# Altium integrated library NSC Voltage Reference.IntLib: 298 symbols (part 1 of 7)
Pins are listed as number, name and electrical type; pins without a type are passive.

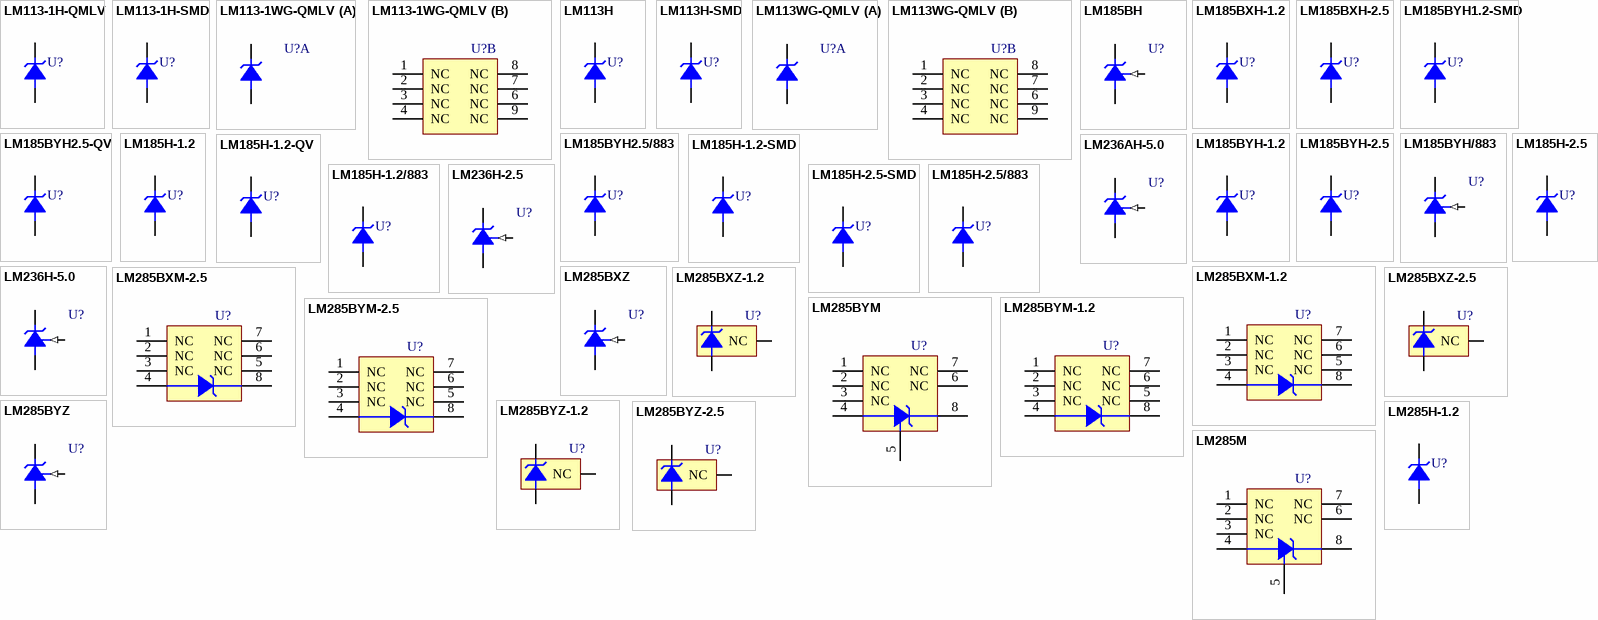
[diagram p0: symbols LM113-1H-QMLV to LM285M]

## LM113-1H-QMLV
designator U?
Precision Reference; PartNumber: LM113-1H-QMLV; Manufacturer: National Semiconductor; CompType: Voltage Reference IC; PackageTopMarking: NSZSSXXYYA 9684302VXA Q; PowerWise: N; Published: 4-Dec-2008; DatasheetVersion: Dec-1994; PackageVersion: revF, Apr-2002; PackageReference: H02A; Publisher: Altium Limited; PackageDescription: Metal Can, TO-46, 2 Lead, .100in Dia, P.C.; RoHS: N; PinCount: 2; Code_JEDEC: TO-46; ComponentLink1Description: LM113 Datasheet; ComponentLink1URL: http://www.national.com/ds/LM/LM113.pdf; ComponentLink2Description: LM113 Web Page; ComponentLink2URL: http://www.national.com/pf/LM/LM113.html; ComponentLink3Description: H02A Package Page; ComponentLink3URL: http://www.national.com/packaging/folders/h02a.html
footprint H02A (Can; 2 Leads; Pin Circle Dia. 2.54 mm; Lead Dia. 0.48 mm (max))
pins: 1 V+ (power), 2 V- (power)

## LM113-1H-SMD
designator U?
Precision Reference; PartNumber: LM113-1H-SMD; Manufacturer: National Semiconductor; CompType: Voltage Reference IC; PackageTopMarking: NSZSSXXYYA 8671102XA Q; PowerWise: N; Published: 4-Dec-2008; DatasheetVersion: Dec-1994; PackageVersion: revF, Apr-2002; PackageReference: H02A; Publisher: Altium Limited; PackageDescription: Metal Can, TO-46, 2 Lead, .100in Dia, P.C.; RoHS: N; PinCount: 2; Code_JEDEC: TO-46; ComponentLink1Description: LM113 Datasheet; ComponentLink1URL: http://www.national.com/ds/LM/LM113.pdf; ComponentLink2Description: LM113 Web Page; ComponentLink2URL: http://www.national.com/pf/LM/LM113.html; ComponentLink3Description: H02A Package Page; ComponentLink3URL: http://www.national.com/packaging/folders/h02a.html
footprint H02A (Can; 2 Leads; Pin Circle Dia. 2.54 mm; Lead Dia. 0.48 mm (max))
pins: 1 V+ (power), 2 V- (power)

## LM113-1WG-QMLV
designator U?
Precision Reference; PartNumber: LM113-1WG-QMLV; Manufacturer: National Semiconductor; CompType: Voltage Reference IC; PackageTopMarking: NS*ZSSXXYYA*9684302*VZA Q; PowerWise: N; MilaeroCode: DXX; Published: 29-May-2009; DatasheetVersion: Dec-1994; PackageVersion: revF, Oct-2008; PackageReference: WG10A; Publisher: Altium Limited; PackageDescription: Cerpack, .270 x .241 x .070in, 10 Lead, .050in Pitch, Gull Wing; RoHS: N; PinCount: 10; ComponentLink1Description: LM113 Datasheet; ComponentLink1URL: http://www.national.com/ds/LM/LM113.pdf; ComponentLink2Description: LM113 Web Page; ComponentLink2URL: http://www.national.com/pf/LM/LM113.html; ComponentLink3Description: WG10A Package Page; ComponentLink3URL: http://www.national.com/packaging/folders/wg10a.html
footprint WG10A_N (CERPACK, 10-Leads, Body 6.9x6.3mm, Pitch 1.27mm, IPC Medium Density)
footprint WG10A_L (CERPACK, 10-Leads, Body 6.9x6.3mm, Pitch 1.27mm, IPC High Density)
footprint WG10A_M (CERPACK, 10-Leads, Body 6.9x6.3mm, Pitch 1.27mm, IPC Low Density)
part A pins: 5 -V, 10 +V
part B pins: 1 NC, 2 NC, 3 NC, 4 NC, 6 NC, 7 NC, 8 NC, 9 NC

## LM113H
designator U?
Precision Reference; PartNumber: LM113H; Manufacturer: National Semiconductor; CompType: Voltage Reference IC; PackageTopMarking: NSXYTTE# LM113H; PowerWise: N; Published: 4-Dec-2008; DatasheetVersion: Dec-1994; PackageVersion: revF, Apr-2002; PackageReference: H02A; Publisher: Altium Limited; PackageDescription: Metal Can, TO-46, 2 Lead, .100in Dia, P.C.; RoHS: O; PinCount: 2; DigiKeyPartNumber: LM113H-ND; Code_JEDEC: TO-46; ComponentLink1Description: LM113 Datasheet; ComponentLink1URL: http://www.national.com/ds/LM/LM113.pdf; ComponentLink2Description: LM113 Web Page; ComponentLink2URL: http://www.national.com/pf/LM/LM113.html; ComponentLink3Description: H02A Package Page; ComponentLink3URL: http://www.national.com/packaging/folders/h02a.html
footprint H02A (Can; 2 Leads; Pin Circle Dia. 2.54 mm; Lead Dia. 0.48 mm (max))
pins: 1 V+ (power), 2 V- (power)

## LM113H-SMD
designator U?
Precision Reference; PartNumber: LM113H-SMD; Manufacturer: National Semiconductor; CompType: Voltage Reference IC; PackageTopMarking: NSZSSXXYYA 8671101XA Q; PowerWise: N; Published: 4-Dec-2008; DatasheetVersion: Dec-1994; PackageVersion: revF, Apr-2002; PackageReference: H02A; Publisher: Altium Limited; PackageDescription: Metal Can, TO-46, 2 Lead, .100in Dia, P.C.; RoHS: N; PinCount: 2; Code_JEDEC: TO-46; ComponentLink1Description: LM113 Datasheet; ComponentLink1URL: http://www.national.com/ds/LM/LM113.pdf; ComponentLink2Description: LM113 Web Page; ComponentLink2URL: http://www.national.com/pf/LM/LM113.html; ComponentLink3Description: H02A Package Page; ComponentLink3URL: http://www.national.com/packaging/folders/h02a.html
footprint H02A (Can; 2 Leads; Pin Circle Dia. 2.54 mm; Lead Dia. 0.48 mm (max))
pins: 1 V+ (power), 2 V- (power)

## LM113WG-QMLV
designator U?
Precision Reference; PartNumber: LM113WG-QMLV; Manufacturer: National Semiconductor; CompType: Voltage Reference IC; PackageTopMarking: NS*ZSSXXYYA*9684301*VZA Q; PowerWise: N; MilaeroCode: DXX; Published: 29-May-2009; DatasheetVersion: Dec-1994; PackageVersion: revF, Oct-2008; PackageReference: WG10A; Publisher: Altium Limited; PackageDescription: Cerpack, .270 x .241 x .070in, 10 Lead, .050in Pitch, Gull Wing; RoHS: N; PinCount: 10; ComponentLink1Description: LM113 Datasheet; ComponentLink1URL: http://www.national.com/ds/LM/LM113.pdf; ComponentLink2Description: LM113 Web Page; ComponentLink2URL: http://www.national.com/pf/LM/LM113.html; ComponentLink3Description: WG10A Package Page; ComponentLink3URL: http://www.national.com/packaging/folders/wg10a.html
footprint WG10A_N (CERPACK, 10-Leads, Body 6.9x6.3mm, Pitch 1.27mm, IPC Medium Density)
footprint WG10A_L (CERPACK, 10-Leads, Body 6.9x6.3mm, Pitch 1.27mm, IPC High Density)
footprint WG10A_M (CERPACK, 10-Leads, Body 6.9x6.3mm, Pitch 1.27mm, IPC Low Density)
part A pins: 5 -V, 10 +V
part B pins: 1 NC, 2 NC, 3 NC, 4 NC, 6 NC, 7 NC, 8 NC, 9 NC

## LM185BH
designator U?
Adjustable Micropower Voltage Reference; PartNumber: LM185BH; Manufacturer: National Semiconductor; CompType: Voltage Reference IC; PackageTopMarking: NSXYTTE# LM185BH; Published: 4-Dec-2008; DatasheetVersion: Jan-2008; PackageVersion: revF, Apr-2002; PackageReference: H03H; Publisher: Altium Limited; PackageDescription: Metal Can, TO-46, 3 Lead, .100in Dia, P.C.; RoHS: O; PinCount: 3; DigiKeyPartNumber: LM185BH-ND; Code_JEDEC: TO-46; ComponentLink1Description: LM185-ADJ Datasheet; ComponentLink1URL: http://www.national.com/ds/LM/LM185-ADJ.pdf; ComponentLink2Description: LM185-ADJ Web Page; ComponentLink2URL: http://www.national.com/pf/LM/LM185-ADJ.html; ComponentLink3Description: H03H Package Page; ComponentLink3URL: http://www.national.com/packaging/folders/h03h.html
footprint H03H (Can; 3 Leads; Pin Circle Dia. 2.54 mm; Lead Dia. 0.48 mm (max))
pins: 1 FB (in), 2 +V, 3 -V

## LM185BXH-1.2
designator U?
Micropower Voltage Reference Diode; PartNumber: LM185BXH-1.2; Manufacturer: National Semiconductor; CompType: Voltage Reference IC; PackageTopMarking: NSXYTTE# LM185BXH1.2; Published: 4-Dec-2008; DatasheetVersion: Jan-2008; PackageVersion: revF, Apr-2002; PackageReference: H02A; Publisher: Altium Limited; PackageDescription: Metal Can, TO-46, 2 Lead, .100in Dia, P.C.; RoHS: O; PinCount: 2; Code_JEDEC: TO-46; ComponentLink1Description: LM185-1.2 Datasheet; ComponentLink1URL: http://www.national.com/ds/LM/LM185-1.2.pdf; ComponentLink2Description: LM185-1.2 Web Page; ComponentLink2URL: http://www.national.com/pf/LM/LM185-1.2.html; ComponentLink3Description: H02A Package Page; ComponentLink3URL: http://www.national.com/packaging/folders/h02a.html
footprint H02A (Can; 2 Leads; Pin Circle Dia. 2.54 mm; Lead Dia. 0.48 mm (max))
pins: 1 V+ (power), 2 V- (power)

## LM185BXH-2.5
designator U?
Micropower Voltage Reference Diode; PartNumber: LM185BXH-2.5; Manufacturer: National Semiconductor; CompType: Voltage Reference IC; PackageTopMarking: NSXYTTE# LM185BXH2.5; Published: 4-Dec-2008; DatasheetVersion: Jan-2008; PackageVersion: revF, Apr-2002; PackageReference: H02A; Publisher: Altium Limited; PackageDescription: Metal Can, TO-46, 2 Lead, .100in Dia, P.C.; RoHS: N; PinCount: 2; Code_JEDEC: TO-46; ComponentLink1Description: LM185-2.5 Datasheet; ComponentLink1URL: http://www.national.com/ds/LM/LM185-2.5.pdf; ComponentLink2Description: LM185-2.5 Web Page; ComponentLink2URL: http://www.national.com/pf/LM/LM185-2.5.html; ComponentLink3Description: H02A Package Page; ComponentLink3URL: http://www.national.com/packaging/folders/h02a.html
footprint H02A (Can; 2 Leads; Pin Circle Dia. 2.54 mm; Lead Dia. 0.48 mm (max))
pins: 1 V+ (power), 2 V- (power)

## LM185BYH1.2-SMD
designator U?
Micropower Voltage Reference Diode; PartNumber: LM185BYH1.2-SMD; Manufacturer: National Semiconductor; CompType: Voltage Reference IC; PackageTopMarking: NSZSSXXYYA 8759405XA Q; Published: 4-Dec-2008; DatasheetVersion: Jan-2008; PackageVersion: revF, Apr-2002; PackageReference: H02A; Publisher: Altium Limited; PackageDescription: Metal Can, TO-46, 2 Lead, .100in Dia, P.C.; RoHS: N; PinCount: 2; Code_JEDEC: TO-46; ComponentLink1Description: LM185-1.2 Datasheet; ComponentLink1URL: http://www.national.com/ds/LM/LM185-1.2.pdf; ComponentLink2Description: LM185-1.2 Web Page; ComponentLink2URL: http://www.national.com/pf/LM/LM185-1.2.html; ComponentLink3Description: H02A Package Page; ComponentLink3URL: http://www.national.com/packaging/folders/h02a.html
footprint H02A (Can; 2 Leads; Pin Circle Dia. 2.54 mm; Lead Dia. 0.48 mm (max))
pins: 1 V+ (power), 2 V- (power)

## LM185BYH2.5-QV
designator U?
Micropower Voltage Reference Diode; PartNumber: LM185BYH2.5-QV; Manufacturer: National Semiconductor; CompType: Voltage Reference IC; PackageTopMarking: NSZSSXXYYA 8759406VXA Q; Published: 4-Dec-2008; DatasheetVersion: Jan-2008; PackageVersion: revF, Apr-2002; PackageReference: H02A; Publisher: Altium Limited; PackageDescription: Metal Can, TO-46, 2 Lead, .100in Dia, P.C.; RoHS: N; PinCount: 2; Code_JEDEC: TO-46; ComponentLink1Description: LM185-2.5 Datasheet; ComponentLink1URL: http://www.national.com/ds/LM/LM185-2.5.pdf; ComponentLink2Description: LM185-2.5 Web Page; ComponentLink2URL: http://www.national.com/pf/LM/LM185-2.5.html; ComponentLink3Description: H02A Package Page; ComponentLink3URL: http://www.national.com/packaging/folders/h02a.html
footprint H02A (Can; 2 Leads; Pin Circle Dia. 2.54 mm; Lead Dia. 0.48 mm (max))
pins: 1 V+ (power), 2 V- (power)

## LM185BYH2.5/883
designator U?
Micropower Voltage Reference Diode; PartNumber: LM185BYH2.5/883; Manufacturer: National Semiconductor; CompType: Voltage Reference IC; PackageTopMarking: NSZSSXXYYA LM185BYH2.5 Q; Published: 4-Dec-2008; DatasheetVersion: Jan-2008; PackageVersion: revF, Apr-2002; PackageReference: H02A; Publisher: Altium Limited; PackageDescription: Metal Can, TO-46, 2 Lead, .100in Dia, P.C.; RoHS: N; PinCount: 2; Code_JEDEC: TO-46; ComponentLink1Description: LM185-2.5 Datasheet; ComponentLink1URL: http://www.national.com/ds/LM/LM185-2.5.pdf; ComponentLink2Description: LM185-2.5 Web Page; ComponentLink2URL: http://www.national.com/pf/LM/LM185-2.5.html; ComponentLink3Description: H02A Package Page; ComponentLink3URL: http://www.national.com/packaging/folders/h02a.html
footprint H02A (Can; 2 Leads; Pin Circle Dia. 2.54 mm; Lead Dia. 0.48 mm (max))
pins: 1 V+ (power), 2 V- (power)

## LM185BYH-1.2
designator U?
Micropower Voltage Reference Diode; PartNumber: LM185BYH-1.2; Manufacturer: National Semiconductor; CompType: Voltage Reference IC; PackageTopMarking: NSXYTTE# LM185BYH1.2; Published: 4-Dec-2008; DatasheetVersion: Jan-2008; PackageVersion: revF, Apr-2002; PackageReference: H02A; Publisher: Altium Limited; PackageDescription: Metal Can, TO-46, 2 Lead, .100in Dia, P.C.; RoHS: O; PinCount: 2; Code_JEDEC: TO-46; ComponentLink1Description: LM185-1.2 Datasheet; ComponentLink1URL: http://www.national.com/ds/LM/LM185-1.2.pdf; ComponentLink2Description: LM185-1.2 Web Page; ComponentLink2URL: http://www.national.com/pf/LM/LM185-1.2.html; ComponentLink3Description: H02A Package Page; ComponentLink3URL: http://www.national.com/packaging/folders/h02a.html
footprint H02A (Can; 2 Leads; Pin Circle Dia. 2.54 mm; Lead Dia. 0.48 mm (max))
pins: 1 V+ (power), 2 V- (power)

## LM185BYH-2.5
designator U?
Micropower Voltage Reference Diode; PartNumber: LM185BYH-2.5; Manufacturer: National Semiconductor; CompType: Voltage Reference IC; PackageTopMarking: NSXYTTE# LM185BYH2.5; Published: 4-Dec-2008; DatasheetVersion: Jan-2008; PackageVersion: revF, Apr-2002; PackageReference: H02A; Publisher: Altium Limited; PackageDescription: Metal Can, TO-46, 2 Lead, .100in Dia, P.C.; RoHS: O; PinCount: 2; Code_JEDEC: TO-46; ComponentLink1Description: LM185-2.5 Datasheet; ComponentLink1URL: http://www.national.com/ds/LM/LM185-2.5.pdf; ComponentLink2Description: LM185-2.5 Web Page; ComponentLink2URL: http://www.national.com/pf/LM/LM185-2.5.html; ComponentLink3Description: H02A Package Page; ComponentLink3URL: http://www.national.com/packaging/folders/h02a.html
footprint H02A (Can; 2 Leads; Pin Circle Dia. 2.54 mm; Lead Dia. 0.48 mm (max))
pins: 1 V+ (power), 2 V- (power)

## LM185BYH/883
designator U?
Adjustable Micropower Voltage Reference; PartNumber: LM185BYH/883; Manufacturer: National Semiconductor; CompType: Voltage Reference IC; PackageTopMarking: NSZSSXXYYA LM185BYHQ Q; Published: 4-Dec-2008; DatasheetVersion: Jan-2008; PackageVersion: revF, Apr-2002; PackageReference: H03H; Publisher: Altium Limited; PackageDescription: Metal Can, TO-46, 3 Lead, .100in Dia, P.C.; RoHS: N; PinCount: 3; Code_JEDEC: TO-46; ComponentLink1Description: LM185-ADJ Datasheet; ComponentLink1URL: http://www.national.com/ds/LM/LM185-ADJ.pdf; ComponentLink2Description: LM185-ADJ Web Page; ComponentLink2URL: http://www.national.com/pf/LM/LM185-ADJ.html; ComponentLink3Description: H03H Package Page; ComponentLink3URL: http://www.national.com/packaging/folders/h03h.html
footprint H03H (Can; 3 Leads; Pin Circle Dia. 2.54 mm; Lead Dia. 0.48 mm (max))
pins: 1 FB (in), 2 +V, 3 -V

## LM185H-1.2
designator U?
Micropower Voltage Reference Diode; PartNumber: LM185H-1.2; Manufacturer: National Semiconductor; CompType: Voltage Reference IC; PackageTopMarking: NSXYTTE# LM185H1.2; Published: 4-Dec-2008; DatasheetVersion: Jan-2008; PackageVersion: revF, Apr-2002; PackageReference: H02A; Publisher: Altium Limited; PackageDescription: Metal Can, TO-46, 2 Lead, .100in Dia, P.C.; RoHS: O; PinCount: 2; Code_JEDEC: TO-46; ComponentLink1Description: LM185-1.2 Datasheet; ComponentLink1URL: http://www.national.com/ds/LM/LM185-1.2.pdf; ComponentLink2Description: LM185-1.2 Web Page; ComponentLink2URL: http://www.national.com/pf/LM/LM185-1.2.html; ComponentLink3Description: H02A Package Page; ComponentLink3URL: http://www.national.com/packaging/folders/h02a.html
footprint H02A (Can; 2 Leads; Pin Circle Dia. 2.54 mm; Lead Dia. 0.48 mm (max))
pins: 1 V+ (power), 2 V- (power)

## LM185H-1.2-QV
designator U?
Micropower Voltage Reference Diode; PartNumber: LM185H-1.2-QV; Manufacturer: National Semiconductor; CompType: Voltage Reference IC; PackageTopMarking: NSZSSXXYYA 5962-8759401VXA Q; Published: 4-Dec-2008; DatasheetVersion: Jan-2008; PackageVersion: revF, Apr-2002; PackageReference: H02A; Publisher: Altium Limited; PackageDescription: Metal Can, TO-46, 2 Lead, .100in Dia, P.C.; RoHS: N; PinCount: 2; Code_JEDEC: TO-46; ComponentLink1Description: LM185-1.2 Datasheet; ComponentLink1URL: http://www.national.com/ds/LM/LM185-1.2.pdf; ComponentLink2Description: LM185-1.2 Web Page; ComponentLink2URL: http://www.national.com/pf/LM/LM185-1.2.html; ComponentLink3Description: H02A Package Page; ComponentLink3URL: http://www.national.com/packaging/folders/h02a.html
footprint H02A (Can; 2 Leads; Pin Circle Dia. 2.54 mm; Lead Dia. 0.48 mm (max))
pins: 1 V+ (power), 2 V- (power)

## LM185H-1.2-SMD
designator U?
Micropower Voltage Reference Diode; PartNumber: LM185H-1.2-SMD; Manufacturer: National Semiconductor; CompType: Voltage Reference IC; PackageTopMarking: NSZSSXXYYA 8759401XA Q; Published: 4-Dec-2008; DatasheetVersion: Jan-2008; PackageVersion: revF, Apr-2002; PackageReference: H02A; Publisher: Altium Limited; PackageDescription: Metal Can, TO-46, 2 Lead, .100in Dia, P.C.; RoHS: N; PinCount: 2; Code_JEDEC: TO-46; ComponentLink1Description: LM185-1.2 Datasheet; ComponentLink1URL: http://www.national.com/ds/LM/LM185-1.2.pdf; ComponentLink2Description: LM185-1.2 Web Page; ComponentLink2URL: http://www.national.com/pf/LM/LM185-1.2.html; ComponentLink3Description: H02A Package Page; ComponentLink3URL: http://www.national.com/packaging/folders/h02a.html
footprint H02A (Can; 2 Leads; Pin Circle Dia. 2.54 mm; Lead Dia. 0.48 mm (max))
pins: 1 V+ (power), 2 V- (power)

## LM185H-1.2/883
designator U?
Micropower Voltage Reference Diode; PartNumber: LM185H-1.2/883; Manufacturer: National Semiconductor; CompType: Voltage Reference IC; PackageTopMarking: NSZSSXXYYA LM185H-1.2 Q; Published: 4-Dec-2008; DatasheetVersion: Jan-2008; PackageVersion: revF, Apr-2002; PackageReference: H02A; Publisher: Altium Limited; PackageDescription: Metal Can, TO-46, 2 Lead, .100in Dia, P.C.; RoHS: N; PinCount: 2; Code_JEDEC: TO-46; ComponentLink1Description: LM185-1.2 Datasheet; ComponentLink1URL: http://www.national.com/ds/LM/LM185-1.2.pdf; ComponentLink2Description: LM185-1.2 Web Page; ComponentLink2URL: http://www.national.com/pf/LM/LM185-1.2.html; ComponentLink3Description: H02A Package Page; ComponentLink3URL: http://www.national.com/packaging/folders/h02a.html
footprint H02A (Can; 2 Leads; Pin Circle Dia. 2.54 mm; Lead Dia. 0.48 mm (max))
pins: 1 V+ (power), 2 V- (power)

## LM185H-2.5
designator U?
Adjustable Micropower Voltage Reference; PartNumber: LM185H-2.5; Manufacturer: National Semiconductor; CompType: Voltage Reference IC; PackageTopMarking: NSXYTTE# LM185H2.5; Published: 4-Dec-2008; DatasheetVersion: Jan-2008; PackageVersion: revF, Apr-2002; PackageReference: H02A; Publisher: Altium Limited; PackageDescription: Metal Can, TO-46, 2 Lead, .100in Dia, P.C.; RoHS: O; PinCount: 2; DigiKeyPartNumber: LM185H-2.5-ND; Code_JEDEC: TO-46; ComponentLink1Description: LM185-2.5 Datasheet; ComponentLink1URL: http://www.national.com/ds/LM/LM185-2.5.pdf; ComponentLink2Description: LM185-2.5 Web Page; ComponentLink2URL: http://www.national.com/pf/LM/LM185-2.5.html; ComponentLink3Description: H02A Package Page; ComponentLink3URL: http://www.national.com/packaging/folders/h02a.html
footprint H02A (Can; 2 Leads; Pin Circle Dia. 2.54 mm; Lead Dia. 0.48 mm (max))
pins: 1 V+ (power), 2 V- (power)

## LM185H-2.5-SMD
designator U?
Micropower Voltage Reference Diode; PartNumber: LM185H-2.5-SMD; Manufacturer: National Semiconductor; CompType: Voltage Reference IC; PackageTopMarking: NSZSSXXYYA 8759402XA Q; Published: 4-Dec-2008; DatasheetVersion: Jan-2008; PackageVersion: revF, Apr-2002; PackageReference: H02A; Publisher: Altium Limited; PackageDescription: Metal Can, TO-46, 2 Lead, .100in Dia, P.C.; RoHS: N; PinCount: 2; Code_JEDEC: TO-46; ComponentLink1Description: LM185-2.5 Datasheet; ComponentLink1URL: http://www.national.com/ds/LM/LM185-2.5.pdf; ComponentLink2Description: LM185-2.5 Web Page; ComponentLink2URL: http://www.national.com/pf/LM/LM185-2.5.html; ComponentLink3Description: H02A Package Page; ComponentLink3URL: http://www.national.com/packaging/folders/h02a.html
footprint H02A (Can; 2 Leads; Pin Circle Dia. 2.54 mm; Lead Dia. 0.48 mm (max))
pins: 1 V+ (power), 2 V- (power)

## LM185H-2.5/883
designator U?
Micropower Voltage Reference Diode; PartNumber: LM185H-2.5/883; Manufacturer: National Semiconductor; CompType: Voltage Reference IC; PackageTopMarking: NSZSSXXYYA LM185H-2.5 Q; Published: 4-Dec-2008; DatasheetVersion: Jan-2008; PackageVersion: revF, Apr-2002; PackageReference: H02A; Publisher: Altium Limited; PackageDescription: Metal Can, TO-46, 2 Lead, .100in Dia, P.C.; RoHS: N; PinCount: 2; Code_JEDEC: TO-46; ComponentLink1Description: LM185-2.5 Datasheet; ComponentLink1URL: http://www.national.com/ds/LM/LM185-2.5.pdf; ComponentLink2Description: LM185-2.5 Web Page; ComponentLink2URL: http://www.national.com/pf/LM/LM185-2.5.html; ComponentLink3Description: H02A Package Page; ComponentLink3URL: http://www.national.com/packaging/folders/h02a.html
footprint H02A (Can; 2 Leads; Pin Circle Dia. 2.54 mm; Lead Dia. 0.48 mm (max))
pins: 1 V+ (power), 2 V- (power)

## LM236AH-5.0
designator U?
5.0V Reference Diode; PartNumber: LM236AH-5.0; Manufacturer: National Semiconductor; CompType: Voltage Reference IC; PackageTopMarking: NSXYTTE# LM236AH5.0; Published: 4-Dec-2008; DatasheetVersion: Jun-2005; PackageVersion: revF, Apr-2002; PackageReference: H03H; Publisher: Altium Limited; PackageDescription: Metal Can, TO-46, 3 Lead, .100in Dia, P.C.; RoHS: O; PinCount: 3; DigiKeyPartNumber: LM236AH-5.0-ND; Code_JEDEC: TO-46; ComponentLink1Description: LM236-5.0 Datasheet; ComponentLink1URL: http://www.national.com/ds/LM/LM236-5.0.pdf; ComponentLink2Description: LM236-5.0 Web Page; ComponentLink2URL: http://www.national.com/pf/LM/LM236-5.0.html; ComponentLink3Description: H03H Package Page; ComponentLink3URL: http://www.national.com/packaging/folders/h03h.html
footprint H03H (Can; 3 Leads; Pin Circle Dia. 2.54 mm; Lead Dia. 0.48 mm (max))
pins: 1 ADJ (in), 2 +V, 3 -V

## LM236H-2.5
designator U?
Voltage Reference Diode; PartNumber: LM236H-2.5; Manufacturer: National Semiconductor; CompType: Voltage Reference IC; PackageTopMarking: NSXYTTE# LM236H2.5; Published: 4-Dec-2008; DatasheetVersion: Jun-2005; PackageVersion: revF, Apr-2002; PackageReference: H03H; Publisher: Altium Limited; PackageDescription: Metal Can, TO-46, 3 Lead, .100in Dia, P.C.; RoHS: O; PinCount: 3; DigiKeyPartNumber: LM236H-2.5-ND; Code_JEDEC: TO-46; ComponentLink1Description: LM236-2.5 Datasheet; ComponentLink1URL: http://www.national.com/ds/LM/LM236-2.5.pdf; ComponentLink2Description: LM236-2.5 Web Page; ComponentLink2URL: http://www.national.com/pf/LM/LM236-2.5.html; ComponentLink3Description: H03H Package Page; ComponentLink3URL: http://www.national.com/packaging/folders/h03h.html
footprint H03H (Can; 3 Leads; Pin Circle Dia. 2.54 mm; Lead Dia. 0.48 mm (max))
pins: 1 ADJ (in), 2 +V, 3 -V

## LM236H-5.0
designator U?
5.0V Reference Diode; PartNumber: LM236H-5.0; Manufacturer: National Semiconductor; CompType: Voltage Reference IC; PackageTopMarking: NSXYTTE# LM236H5.0; Published: 4-Dec-2008; DatasheetVersion: Jun-2005; PackageVersion: revF, Apr-2002; PackageReference: H03H; Publisher: Altium Limited; PackageDescription: Metal Can, TO-46, 3 Lead, .100in Dia, P.C.; RoHS: O; PinCount: 3; DigiKeyPartNumber: LM236H-5.0-ND; Code_JEDEC: TO-46; ComponentLink1Description: LM236-5.0 Datasheet; ComponentLink1URL: http://www.national.com/ds/LM/LM236-5.0.pdf; ComponentLink2Description: LM236-5.0 Web Page; ComponentLink2URL: http://www.national.com/pf/LM/LM236-5.0.html; ComponentLink3Description: H03H Package Page; ComponentLink3URL: http://www.national.com/packaging/folders/h03h.html
footprint H03H (Can; 3 Leads; Pin Circle Dia. 2.54 mm; Lead Dia. 0.48 mm (max))
pins: 1 ADJ (in), 2 +V, 3 -V

## LM285BXM-1.2
designator U?
Micropower Voltage Reference Diode; PartNumber: LM285BXM-1.2; Manufacturer: National Semiconductor; CompType: Voltage Reference IC; PackageTopMarking: NSZXTT*285BX*M1.2; Published: 4-Dec-2008; DatasheetVersion: Jan-2008; PackageVersion: revL, Sep-2006; PackageReference: M08A; Publisher: Altium Limited; PackageDescription: SOIC Narrow, 4.9 x 3.9 x 1.45mm, 8 Lead, 1.27mm Pitch; RoHS: O; PinCount: 8; DigiKeyPartNumber: LM285BXM-1.2-ND; Code_JEDEC: MS-012-AA; Code_IPC: SOIC127P600-8; ComponentLink1Description: LM285-1.2 Datasheet; ComponentLink1URL: http://www.national.com/ds/LM/LM285-1.2.pdf; ComponentLink2Description: LM285-1.2 Web Page; ComponentLink2URL: http://www.national.com/pf/LM/LM285-1.2.html; ComponentLink3Description: M08A Package Page; ComponentLink3URL: http://www.national.com/packaging/folders/m08a.html
footprint M08A_N (SOIC, 8-Leads, Body 4.9x3.9mm, Pitch 1.27mm, IPC Medium Density)
footprint M08A_L (SOIC, 8-Leads, Body 4.9x3.9mm, Pitch 1.27mm, IPC High Density)
footprint M08A_M (SOIC, 8-Leads, Body 4.9x3.9mm, Pitch 1.27mm, IPC Low Density)
pins: 1 NC, 2 NC, 3 NC, 4 -V, 5 NC, 6 NC, 7 NC, 8 +V

## LM285BXM-2.5
designator U?
Micropower Voltage Reference Diode; PartNumber: LM285BXM-2.5; Manufacturer: National Semiconductor; CompType: Voltage Reference IC; PackageTopMarking: NSZXTT*285BX*M2.5; Published: 4-Dec-2008; DatasheetVersion: Jan-2008; PackageVersion: revL, Sep-2006; PackageReference: M08A; Publisher: Altium Limited; PackageDescription: SOIC Narrow, 4.9 x 3.9 x 1.45mm, 8 Lead, 1.27mm Pitch; RoHS: O; PinCount: 8; DigiKeyPartNumber: LM285BXM-2.5-ND; Code_JEDEC: MS-012-AA; Code_IPC: SOIC127P600-8; ComponentLink1Description: LM285-2.5 Datasheet; ComponentLink1URL: http://www.national.com/ds/LM/LM285-2.5.pdf; ComponentLink2Description: LM285-2.5 Web Page; ComponentLink2URL: http://www.national.com/pf/LM/LM285-2.5.html; ComponentLink3Description: M08A Package Page; ComponentLink3URL: http://www.national.com/packaging/folders/m08a.html
footprint M08A_N (SOIC, 8-Leads, Body 4.9x3.9mm, Pitch 1.27mm, IPC Medium Density)
footprint M08A_L (SOIC, 8-Leads, Body 4.9x3.9mm, Pitch 1.27mm, IPC High Density)
footprint M08A_M (SOIC, 8-Leads, Body 4.9x3.9mm, Pitch 1.27mm, IPC Low Density)
pins: 1 NC, 2 NC, 3 NC, 4 -V, 5 NC, 6 NC, 7 NC, 8 +V

## LM285BXZ
designator U?
Adjustable Micropower Voltage Reference; PartNumber: LM285BXZ; Manufacturer: National Semiconductor; CompType: Voltage Reference IC; PackageTopMarking: NSXYTT*LM285*BXZ; Published: 4-Dec-2008; LatestRevisionDate: 15-Jul-2009; LatestRevisionNote: Sch pins 1 & 3 reversed.; DatasheetVersion: Jan-2008; PackageVersion: revG, Sep-2000; PackageReference: Z03A; Publisher: Altium Limited; PackageDescription: TO-92, Molded, 3 Lead; RoHS: O; PinCount: 3; DigiKeyPartNumber: LM285BXZ-ND; Code_JEDEC: TO-226-AA; ComponentLink1Description: LM285-ADJ Datasheet; ComponentLink1URL: http://www.national.com/ds/LM/LM285-ADJ.pdf; ComponentLink2Description: LM285-ADJ Web Page; ComponentLink2URL: http://www.national.com/pf/LM/LM285-ADJ.html; ComponentLink3Description: Z03A Package Page; ComponentLink3URL: http://www.national.com/packaging/folders/z03a.html
footprint Z03A (TO, Flat Index; 3 In-Line, Axial Leads; Body Dia. 5mm; Leads 0.55 x 0.50 mm (max))
pins: 1 FB (in), 2 +V, 3 -V

## LM285BXZ-1.2
designator U?
Micropower Voltage Reference Diode; PartNumber: LM285BXZ-1.2; Manufacturer: National Semiconductor; CompType: Voltage Reference IC; PackageTopMarking: NSXYTT*285BX*Z-1.2; Published: 4-Dec-2008; LatestRevisionDate: 15-Jul-2009; LatestRevisionNote: Sch pins 1 & 3 reversed.; DatasheetVersion: Jan-2008; PackageVersion: revG, Sep-2000; PackageReference: Z03A; Publisher: Altium Limited; PackageDescription: TO-92, Molded, 3 Lead; RoHS: Y; PinCount: 3; DigiKeyPartNumber: LM285BXZ-1.2-ND; Code_JEDEC: TO-226-AA; ComponentLink1Description: LM285-1.2 Datasheet; ComponentLink1URL: http://www.national.com/ds/LM/LM285-1.2.pdf; ComponentLink2Description: LM285-1.2 Web Page; ComponentLink2URL: http://www.national.com/pf/LM/LM285-1.2.html; ComponentLink3Description: Z03A Package Page; ComponentLink3URL: http://www.national.com/packaging/folders/z03a.html
footprint Z03A (TO, Flat Index; 3 In-Line, Axial Leads; Body Dia. 5mm; Leads 0.55 x 0.50 mm (max))
pins: 1 NC, 2 +V, 3 -V

## LM285BXZ-2.5
designator U?
Micropower Voltage Reference Diode; PartNumber: LM285BXZ-2.5; Manufacturer: National Semiconductor; CompType: Voltage Reference IC; PackageTopMarking: NSXYTT*285BX*Z2.5; Published: 4-Dec-2008; LatestRevisionDate: 15-Jul-2009; LatestRevisionNote: Sch pins 1 & 3 reversed.; DatasheetVersion: Jan-2008; PackageVersion: revG, Sep-2000; PackageReference: Z03A; Publisher: Altium Limited; PackageDescription: TO-92, Molded, 3 Lead; RoHS: O; PinCount: 3; DigiKeyPartNumber: LM285BXZ-2.5-ND; Code_JEDEC: TO-226-AA; ComponentLink1Description: LM285-2.5 Datasheet; ComponentLink1URL: http://www.national.com/ds/LM/LM285-2.5.pdf; ComponentLink2Description: LM285-2.5 Web Page; ComponentLink2URL: http://www.national.com/pf/LM/LM285-2.5.html; ComponentLink3Description: Z03A Package Page; ComponentLink3URL: http://www.national.com/packaging/folders/z03a.html
footprint Z03A (TO, Flat Index; 3 In-Line, Axial Leads; Body Dia. 5mm; Leads 0.55 x 0.50 mm (max))
pins: 1 NC, 2 +V, 3 -V

## LM285BYM
designator U?
Adjustable Micropower Voltage Reference; PartNumber: LM285BYM; Manufacturer: National Semiconductor; CompType: Voltage Reference IC; PackageTopMarking: NSZXTT*LM285*BYM; Published: 4-Dec-2008; DatasheetVersion: Jan-2008; PackageVersion: revL, Sep-2006; PackageReference: M08A; Publisher: Altium Limited; PackageDescription: SOIC Narrow, 4.9 x 3.9 x 1.45mm, 8 Lead, 1.27mm Pitch; RoHS: O; PinCount: 8; DigiKeyPartNumber: LM285BYM-ND; Code_JEDEC: MS-012-AA; Code_IPC: SOIC127P600-8; ComponentLink1Description: LM285-ADJ Datasheet; ComponentLink1URL: http://www.national.com/ds/LM/LM285-ADJ.pdf; ComponentLink2Description: LM285-ADJ Web Page; ComponentLink2URL: http://www.national.com/pf/LM/LM285-ADJ.html; ComponentLink3Description: M08A Package Page; ComponentLink3URL: http://www.national.com/packaging/folders/m08a.html
footprint M08A_N (SOIC, 8-Leads, Body 4.9x3.9mm, Pitch 1.27mm, IPC Medium Density)
footprint M08A_L (SOIC, 8-Leads, Body 4.9x3.9mm, Pitch 1.27mm, IPC High Density)
footprint M08A_M (SOIC, 8-Leads, Body 4.9x3.9mm, Pitch 1.27mm, IPC Low Density)
pins: 1 NC, 2 NC, 3 NC, 4 -V, 5 FB, 6 NC, 7 NC, 8 +V

## LM285BYM-1.2
designator U?
Micropower Voltage Reference Diode; PartNumber: LM285BYM-1.2; Manufacturer: National Semiconductor; CompType: Voltage Reference IC; PackageTopMarking: NSZXTT*285BY*M1.2; Published: 4-Dec-2008; DatasheetVersion: Jan-2008; PackageVersion: revL, Sep-2006; PackageReference: M08A; Publisher: Altium Limited; PackageDescription: SOIC Narrow, 4.9 x 3.9 x 1.45mm, 8 Lead, 1.27mm Pitch; RoHS: O; PinCount: 8; Code_JEDEC: MS-012-AA; Code_IPC: SOIC127P600-8; ComponentLink1Description: LM285-1.2 Datasheet; ComponentLink1URL: http://www.national.com/ds/LM/LM285-1.2.pdf; ComponentLink2Description: LM285-1.2 Web Page; ComponentLink2URL: http://www.national.com/pf/LM/LM285-1.2.html; ComponentLink3Description: M08A Package Page; ComponentLink3URL: http://www.national.com/packaging/folders/m08a.html
footprint M08A_N (SOIC, 8-Leads, Body 4.9x3.9mm, Pitch 1.27mm, IPC Medium Density)
footprint M08A_L (SOIC, 8-Leads, Body 4.9x3.9mm, Pitch 1.27mm, IPC High Density)
footprint M08A_M (SOIC, 8-Leads, Body 4.9x3.9mm, Pitch 1.27mm, IPC Low Density)
pins: 1 NC, 2 NC, 3 NC, 4 -V, 5 NC, 6 NC, 7 NC, 8 +V

## LM285BYM-2.5
designator U?
Micropower Voltage Reference Diode; PartNumber: LM285BYM-2.5; Manufacturer: National Semiconductor; CompType: Voltage Reference IC; PackageTopMarking: NSZXTT*285BY*M2.5; Published: 4-Dec-2008; DatasheetVersion: Jan-2008; PackageVersion: revL, Sep-2006; PackageReference: M08A; Publisher: Altium Limited; PackageDescription: SOIC Narrow, 4.9 x 3.9 x 1.45mm, 8 Lead, 1.27mm Pitch; RoHS: O; PinCount: 8; DigiKeyPartNumber: LM285BYM-2.5-ND; Code_JEDEC: MS-012-AA; Code_IPC: SOIC127P600-8; ComponentLink1Description: LM285-2.5 Datasheet; ComponentLink1URL: http://www.national.com/ds/LM/LM285-2.5.pdf; ComponentLink2Description: LM285-2.5 Web Page; ComponentLink2URL: http://www.national.com/pf/LM/LM285-2.5.html; ComponentLink3Description: M08A Package Page; ComponentLink3URL: http://www.national.com/packaging/folders/m08a.html
footprint M08A_N (SOIC, 8-Leads, Body 4.9x3.9mm, Pitch 1.27mm, IPC Medium Density)
footprint M08A_L (SOIC, 8-Leads, Body 4.9x3.9mm, Pitch 1.27mm, IPC High Density)
footprint M08A_M (SOIC, 8-Leads, Body 4.9x3.9mm, Pitch 1.27mm, IPC Low Density)
pins: 1 NC, 2 NC, 3 NC, 4 -V, 5 NC, 6 NC, 7 NC, 8 +V

## LM285BYZ
designator U?
Adjustable Micropower Voltage Reference; PartNumber: LM285BYZ; Manufacturer: National Semiconductor; CompType: Voltage Reference IC; PackageTopMarking: NSXYTT*LM285*BYZ; Published: 4-Dec-2008; LatestRevisionDate: 15-Jul-2009; LatestRevisionNote: Sch pins 1 & 3 reversed.; DatasheetVersion: Jan-2008; PackageVersion: revG, Sep-2000; PackageReference: Z03A; Publisher: Altium Limited; PackageDescription: TO-92, Molded, 3 Lead; RoHS: Y; PinCount: 3; DigiKeyPartNumber: LM285BYZ-ND; Code_JEDEC: TO-226-AA; ComponentLink1Description: LM285-ADJ Datasheet; ComponentLink1URL: http://www.national.com/ds/LM/LM285-ADJ.pdf; ComponentLink2Description: LM285-ADJ Web Page; ComponentLink2URL: http://www.national.com/pf/LM/LM285-ADJ.html; ComponentLink3Description: Z03A Package Page; ComponentLink3URL: http://www.national.com/packaging/folders/z03a.html
footprint Z03A (TO, Flat Index; 3 In-Line, Axial Leads; Body Dia. 5mm; Leads 0.55 x 0.50 mm (max))
pins: 1 FB (in), 2 +V, 3 -V

## LM285BYZ-1.2
designator U?
Micropower Voltage Reference Diode; PartNumber: LM285BYZ-1.2; Manufacturer: National Semiconductor; CompType: Voltage Reference IC; PackageTopMarking: NSXYTT*285BY*Z-1.2; Published: 4-Dec-2008; LatestRevisionDate: 15-Jul-2009; LatestRevisionNote: Sch pins 1 & 3 reversed.; DatasheetVersion: Jan-2008; PackageVersion: revG, Sep-2000; PackageReference: Z03A; Publisher: Altium Limited; PackageDescription: TO-92, Molded, 3 Lead; RoHS: O; PinCount: 3; DigiKeyPartNumber: LM285BYZ-1.2-ND; Code_JEDEC: TO-226-AA; ComponentLink1Description: LM285-1.2 Datasheet; ComponentLink1URL: http://www.national.com/ds/LM/LM285-1.2.pdf; ComponentLink2Description: LM285-1.2 Web Page; ComponentLink2URL: http://www.national.com/pf/LM/LM285-1.2.html; ComponentLink3Description: Z03A Package Page; ComponentLink3URL: http://www.national.com/packaging/folders/z03a.html
footprint Z03A (TO, Flat Index; 3 In-Line, Axial Leads; Body Dia. 5mm; Leads 0.55 x 0.50 mm (max))
pins: 1 NC, 2 +V, 3 -V

## LM285BYZ-2.5
designator U?
Micropower Voltage Reference Diode; PartNumber: LM285BYZ-2.5; Manufacturer: National Semiconductor; CompType: Voltage Reference IC; PackageTopMarking: NSXYTT*285BY*Z2.5; Published: 4-Dec-2008; LatestRevisionDate: 15-Jul-2009; LatestRevisionNote: Sch pins 1 & 3 reversed.; DatasheetVersion: Jan-2008; PackageVersion: revG, Sep-2000; PackageReference: Z03A; Publisher: Altium Limited; PackageDescription: TO-92, Molded, 3 Lead; RoHS: O; PinCount: 3; DigiKeyPartNumber: LM285BYZ-2.5-ND; Code_JEDEC: TO-226-AA; ComponentLink1Description: LM285-2.5 Datasheet; ComponentLink1URL: http://www.national.com/ds/LM/LM285-2.5.pdf; ComponentLink2Description: LM285-2.5 Web Page; ComponentLink2URL: http://www.national.com/pf/LM/LM285-2.5.html; ComponentLink3Description: Z03A Package Page; ComponentLink3URL: http://www.national.com/packaging/folders/z03a.html
footprint Z03A (TO, Flat Index; 3 In-Line, Axial Leads; Body Dia. 5mm; Leads 0.55 x 0.50 mm (max))
pins: 1 NC, 2 +V, 3 -V

## LM285H-1.2
designator U?
Micropower Voltage Reference Diode; PartNumber: LM285H-1.2; Manufacturer: National Semiconductor; CompType: Voltage Reference IC; PackageTopMarking: NSXYTTE# LM285H1.2; Published: 4-Dec-2008; DatasheetVersion: Jan-2008; PackageVersion: revF, Apr-2002; PackageReference: H02A; Publisher: Altium Limited; PackageDescription: Metal Can, TO-46, 2 Lead, .100in Dia, P.C.; RoHS: O; PinCount: 2; Code_JEDEC: TO-46; ComponentLink1Description: LM285-1.2 Datasheet; ComponentLink1URL: http://www.national.com/ds/LM/LM285-1.2.pdf; ComponentLink2Description: LM285-1.2 Web Page; ComponentLink2URL: http://www.national.com/pf/LM/LM285-1.2.html; ComponentLink3Description: H02A Package Page; ComponentLink3URL: http://www.national.com/packaging/folders/h02a.html
footprint H02A (Can; 2 Leads; Pin Circle Dia. 2.54 mm; Lead Dia. 0.48 mm (max))
pins: 1 V+ (power), 2 V- (power)

## LM285M
designator U?
Adjustable Micropower Voltage Reference; PartNumber: LM285M; Manufacturer: National Semiconductor; CompType: Voltage Reference IC; PackageTopMarking: NSZXTT*LM285*M; Published: 4-Dec-2008; DatasheetVersion: Jan-2008; PackageVersion: revL, Sep-2006; PackageReference: M08A; Publisher: Altium Limited; PackageDescription: SOIC Narrow, 4.9 x 3.9 x 1.45mm, 8 Lead, 1.27mm Pitch; RoHS: O; PinCount: 8; DigiKeyPartNumber: LM285M-ND; Code_JEDEC: MS-012-AA; Code_IPC: SOIC127P600-8; ComponentLink1Description: LM285-ADJ Datasheet; ComponentLink1URL: http://www.national.com/ds/LM/LM285-ADJ.pdf; ComponentLink2Description: LM285-ADJ Web Page; ComponentLink2URL: http://www.national.com/pf/LM/LM285-ADJ.html; ComponentLink3Description: M08A Package Page; ComponentLink3URL: http://www.national.com/packaging/folders/m08a.html
footprint M08A_N (SOIC, 8-Leads, Body 4.9x3.9mm, Pitch 1.27mm, IPC Medium Density)
footprint M08A_L (SOIC, 8-Leads, Body 4.9x3.9mm, Pitch 1.27mm, IPC High Density)
footprint M08A_M (SOIC, 8-Leads, Body 4.9x3.9mm, Pitch 1.27mm, IPC Low Density)
pins: 1 NC, 2 NC, 3 NC, 4 -V, 5 FB, 6 NC, 7 NC, 8 +V

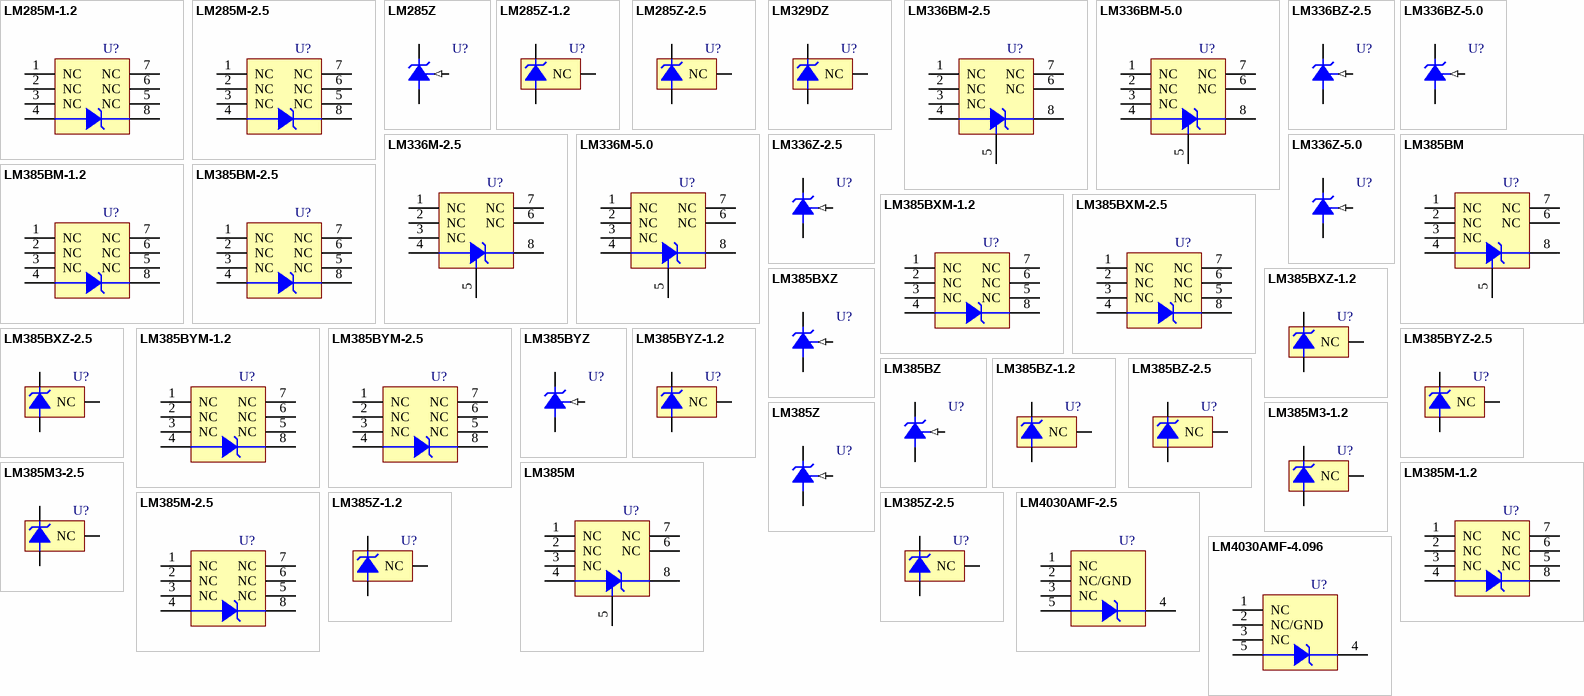
[diagram p1: symbols LM285M-1.2 to LM4030AMF-4.096]

## LM285M-1.2
designator U?
Micropower Voltage Reference Diode; PartNumber: LM285M-1.2; Manufacturer: National Semiconductor; CompType: Voltage Reference IC; PackageTopMarking: NSZXTT*LM285*M1.2; Published: 4-Dec-2008; DatasheetVersion: Jan-2008; PackageVersion: revL, Sep-2006; PackageReference: M08A; Publisher: Altium Limited; PackageDescription: SOIC Narrow, 4.9 x 3.9 x 1.45mm, 8 Lead, 1.27mm Pitch; RoHS: O; PinCount: 8; DigiKeyPartNumber: LM285M-1.2-ND; Code_JEDEC: MS-012-AA; Code_IPC: SOIC127P600-8; ComponentLink1Description: LM285-1.2 Datasheet; ComponentLink1URL: http://www.national.com/ds/LM/LM285-1.2.pdf; ComponentLink2Description: LM285-1.2 Web Page; ComponentLink2URL: http://www.national.com/pf/LM/LM285-1.2.html; ComponentLink3Description: M08A Package Page; ComponentLink3URL: http://www.national.com/packaging/folders/m08a.html
footprint M08A_N (SOIC, 8-Leads, Body 4.9x3.9mm, Pitch 1.27mm, IPC Medium Density)
footprint M08A_L (SOIC, 8-Leads, Body 4.9x3.9mm, Pitch 1.27mm, IPC High Density)
footprint M08A_M (SOIC, 8-Leads, Body 4.9x3.9mm, Pitch 1.27mm, IPC Low Density)
pins: 1 NC, 2 NC, 3 NC, 4 -V, 5 NC, 6 NC, 7 NC, 8 +V

## LM285M-2.5
designator U?
Micropower Voltage Reference Diode; PartNumber: LM285M-2.5; Manufacturer: National Semiconductor; CompType: Voltage Reference IC; PackageTopMarking: NSZXTT*LM285*M2.5; Published: 4-Dec-2008; DatasheetVersion: Jan-2008; PackageVersion: revL, Sep-2006; PackageReference: M08A; Publisher: Altium Limited; PackageDescription: SOIC Narrow, 4.9 x 3.9 x 1.45mm, 8 Lead, 1.27mm Pitch; RoHS: O; PinCount: 8; DigiKeyPartNumber: LM285M-2.5-ND; Code_JEDEC: MS-012-AA; Code_IPC: SOIC127P600-8; ComponentLink1Description: LM285-2.5 Datasheet; ComponentLink1URL: http://www.national.com/ds/LM/LM285-2.5.pdf; ComponentLink2Description: LM285-2.5 Web Page; ComponentLink2URL: http://www.national.com/pf/LM/LM285-2.5.html; ComponentLink3Description: M08A Package Page; ComponentLink3URL: http://www.national.com/packaging/folders/m08a.html
footprint M08A_N (SOIC, 8-Leads, Body 4.9x3.9mm, Pitch 1.27mm, IPC Medium Density)
footprint M08A_L (SOIC, 8-Leads, Body 4.9x3.9mm, Pitch 1.27mm, IPC High Density)
footprint M08A_M (SOIC, 8-Leads, Body 4.9x3.9mm, Pitch 1.27mm, IPC Low Density)
pins: 1 NC, 2 NC, 3 NC, 4 -V, 5 NC, 6 NC, 7 NC, 8 +V

## LM285Z
designator U?
Adjustable Micropower Voltage Reference; PartNumber: LM285Z; Manufacturer: National Semiconductor; CompType: Voltage Reference IC; PackageTopMarking: NSXYTT*LM285*Z; Published: 4-Dec-2008; LatestRevisionDate: 15-Jul-2009; LatestRevisionNote: Sch pins 1 & 3 reversed.; DatasheetVersion: Jan-2008; PackageVersion: revG, Sep-2000; PackageReference: Z03A; Publisher: Altium Limited; PackageDescription: TO-92, Molded, 3 Lead; RoHS: O; PinCount: 3; DigiKeyPartNumber: LM285Z-ND; Code_JEDEC: TO-226-AA; ComponentLink1Description: LM285-ADJ Datasheet; ComponentLink1URL: http://www.national.com/ds/LM/LM285-ADJ.pdf; ComponentLink2Description: LM285-ADJ Web Page; ComponentLink2URL: http://www.national.com/pf/LM/LM285-ADJ.html; ComponentLink3Description: Z03A Package Page; ComponentLink3URL: http://www.national.com/packaging/folders/z03a.html
footprint Z03A (TO, Flat Index; 3 In-Line, Axial Leads; Body Dia. 5mm; Leads 0.55 x 0.50 mm (max))
pins: 1 FB (in), 2 +V, 3 -V

## LM285Z-1.2
designator U?
Micropower Voltage Reference Diode; PartNumber: LM285Z-1.2; Manufacturer: National Semiconductor; CompType: Voltage Reference IC; PackageTopMarking: NSXYTT*LM28*5Z-1.2; Published: 4-Dec-2008; LatestRevisionDate: 15-Jul-2009; LatestRevisionNote: Sch pins 1 & 3 reversed.; DatasheetVersion: Jan-2008; PackageVersion: revG, Sep-2000; PackageReference: Z03A; Publisher: Altium Limited; PackageDescription: TO-92, Molded, 3 Lead; RoHS: Y; PinCount: 3; DigiKeyPartNumber: LM285Z-1.2NS-ND; Code_JEDEC: TO-226-AA; ComponentLink1Description: LM285-1.2 Datasheet; ComponentLink1URL: http://www.national.com/ds/LM/LM285-1.2.pdf; ComponentLink2Description: LM285-1.2 Web Page; ComponentLink2URL: http://www.national.com/pf/LM/LM285-1.2.html; ComponentLink3Description: Z03A Package Page; ComponentLink3URL: http://www.national.com/packaging/folders/z03a.html
footprint Z03A (TO, Flat Index; 3 In-Line, Axial Leads; Body Dia. 5mm; Leads 0.55 x 0.50 mm (max))
pins: 1 NC, 2 +V, 3 -V

## LM285Z-2.5
designator U?
Micropower Voltage Reference Diode; PartNumber: LM285Z-2.5; Manufacturer: National Semiconductor; CompType: Voltage Reference IC; PackageTopMarking: NSXYTT*LM285*Z-2.5; Published: 4-Dec-2008; LatestRevisionDate: 15-Jul-2009; LatestRevisionNote: Sch pins 1 & 3 reversed.; DatasheetVersion: Jan-2008; PackageVersion: revG, Sep-2000; PackageReference: Z03A; Publisher: Altium Limited; PackageDescription: TO-92, Molded, 3 Lead; RoHS: O; PinCount: 3; DigiKeyPartNumber: LM285Z-2.5-ND; Code_JEDEC: TO-226-AA; ComponentLink1Description: LM285-2.5 Datasheet; ComponentLink1URL: http://www.national.com/ds/LM/LM285-2.5.pdf; ComponentLink2Description: LM285-2.5 Web Page; ComponentLink2URL: http://www.national.com/pf/LM/LM285-2.5.html; ComponentLink3Description: Z03A Package Page; ComponentLink3URL: http://www.national.com/packaging/folders/z03a.html
footprint Z03A (TO, Flat Index; 3 In-Line, Axial Leads; Body Dia. 5mm; Leads 0.55 x 0.50 mm (max))
pins: 1 NC, 2 +V, 3 -V

## LM329DZ
designator U?
Precision Reference; PartNumber: LM329DZ; Manufacturer: National Semiconductor; CompType: Voltage Reference IC; PackageTopMarking: NSXYTT*LM329*DZ; PowerWise: N; Published: 4-Dec-2008; LatestRevisionDate: 15-Jul-2009; LatestRevisionNote: Sch pins 1 & 3 reversed.; DatasheetVersion: Jan-2008; PackageVersion: revG, Sep-2000; PackageReference: Z03A; Publisher: Altium Limited; PackageDescription: TO-92, Molded, 3 Lead; RoHS: O; PinCount: 3; DigiKeyPartNumber: LM329DZ-ND; Code_JEDEC: TO-226-AA; ComponentLink1Description: LM329 Datasheet; ComponentLink1URL: http://www.national.com/ds/LM/LM329.pdf; ComponentLink2Description: LM329 Web Page; ComponentLink2URL: http://www.national.com/pf/LM/LM329.html; ComponentLink3Description: Z03A Package Page; ComponentLink3URL: http://www.national.com/packaging/folders/z03a.html
footprint Z03A (TO, Flat Index; 3 In-Line, Axial Leads; Body Dia. 5mm; Leads 0.55 x 0.50 mm (max))
pins: 1 NC, 2 +V, 3 -V

## LM336BM-2.5
designator U?
Voltage Reference Diode; PartNumber: LM336BM-2.5; Manufacturer: National Semiconductor; CompType: Voltage Reference IC; PackageTopMarking: NSZXTT*LM336*BM2.5; Published: 4-Dec-2008; DatasheetVersion: Jun-2005; PackageVersion: revL, Sep-2006; PackageReference: M08A; Publisher: Altium Limited; PackageDescription: SOIC Narrow, 4.9 x 3.9 x 1.45mm, 8 Lead, 1.27mm Pitch; RoHS: O; PinCount: 8; DigiKeyPartNumber: LM336BM-2.5-ND; Code_JEDEC: MS-012-AA; Code_IPC: SOIC127P600-8; ComponentLink1Description: LM336-2.5 Datasheet; ComponentLink1URL: http://www.national.com/ds/LM/LM336-2.5.pdf; ComponentLink2Description: LM336-2.5 Web Page; ComponentLink2URL: http://www.national.com/pf/LM/LM336-2.5.html; ComponentLink3Description: M08A Package Page; ComponentLink3URL: http://www.national.com/packaging/folders/m08a.html
footprint M08A_N (SOIC, 8-Leads, Body 4.9x3.9mm, Pitch 1.27mm, IPC Medium Density)
footprint M08A_L (SOIC, 8-Leads, Body 4.9x3.9mm, Pitch 1.27mm, IPC High Density)
footprint M08A_M (SOIC, 8-Leads, Body 4.9x3.9mm, Pitch 1.27mm, IPC Low Density)
pins: 1 NC, 2 NC, 3 NC, 4 -V, 5 ADJ, 6 NC, 7 NC, 8 +V

## LM336BM-5.0
designator U?
5.0V Reference Diode; PartNumber: LM336BM-5.0; Manufacturer: National Semiconductor; CompType: Voltage Reference IC; PackageTopMarking: NSZXTT*LM336*BM5.0; Published: 4-Dec-2008; DatasheetVersion: Jun-2005; PackageVersion: revL, Sep-2006; PackageReference: M08A; Publisher: Altium Limited; PackageDescription: SOIC Narrow, 4.9 x 3.9 x 1.45mm, 8 Lead, 1.27mm Pitch; RoHS: O; PinCount: 8; DigiKeyPartNumber: LM336BM-5.0-ND; Code_JEDEC: MS-012-AA; Code_IPC: SOIC127P600-8; ComponentLink1Description: LM336-5.0 Datasheet; ComponentLink1URL: http://www.national.com/ds/LM/LM336-5.0.pdf; ComponentLink2Description: LM336-5.0 Web Page; ComponentLink2URL: http://www.national.com/pf/LM/LM336-5.0.html; ComponentLink3Description: M08A Package Page; ComponentLink3URL: http://www.national.com/packaging/folders/m08a.html
footprint M08A_N (SOIC, 8-Leads, Body 4.9x3.9mm, Pitch 1.27mm, IPC Medium Density)
footprint M08A_L (SOIC, 8-Leads, Body 4.9x3.9mm, Pitch 1.27mm, IPC High Density)
footprint M08A_M (SOIC, 8-Leads, Body 4.9x3.9mm, Pitch 1.27mm, IPC Low Density)
pins: 1 NC, 2 NC, 3 NC, 4 -V, 5 ADJ, 6 NC, 7 NC, 8 +V

## LM336BZ-2.5
designator U?
Voltage Reference Diode; PartNumber: LM336BZ-2.5; Manufacturer: National Semiconductor; CompType: Voltage Reference IC; PackageTopMarking: NSXYTT*LM336*BZ2.5; Published: 4-Dec-2008; LatestRevisionDate: 15-Jul-2009; LatestRevisionNote: Sch pins 1 & 3 reversed.; DatasheetVersion: Jun-2005; PackageVersion: revG, Sep-2000; PackageReference: Z03A; Publisher: Altium Limited; PackageDescription: TO-92, Molded, 3 Lead; RoHS: O; PinCount: 3; DigiKeyPartNumber: LM336BZ-2.5-ND; Code_JEDEC: TO-226-AA; ComponentLink1Description: LM336-2.5 Datasheet; ComponentLink1URL: http://www.national.com/ds/LM/LM336-2.5.pdf; ComponentLink2Description: LM336-2.5 Web Page; ComponentLink2URL: http://www.national.com/pf/LM/LM336-2.5.html; ComponentLink3Description: Z03A Package Page; ComponentLink3URL: http://www.national.com/packaging/folders/z03a.html
footprint Z03A (TO, Flat Index; 3 In-Line, Axial Leads; Body Dia. 5mm; Leads 0.55 x 0.50 mm (max))
pins: 1 ADJ (in), 2 +V, 3 -V

## LM336BZ-5.0
designator U?
5.0V Reference Diode; PartNumber: LM336BZ-5.0; Manufacturer: National Semiconductor; CompType: Voltage Reference IC; PackageTopMarking: NSXYTT*LM336*BZ5.0; Published: 4-Dec-2008; LatestRevisionDate: 15-Jul-2009; LatestRevisionNote: Sch pins 1 & 3 reversed.; DatasheetVersion: Jun-2005; PackageVersion: revG, Sep-2000; PackageReference: Z03A; Publisher: Altium Limited; PackageDescription: TO-92, Molded, 3 Lead; RoHS: O; PinCount: 3; DigiKeyPartNumber: LM336BZ-5.0-ND; Code_JEDEC: TO-226-AA; ComponentLink1Description: LM336-5.0 Datasheet; ComponentLink1URL: http://www.national.com/ds/LM/LM336-5.0.pdf; ComponentLink2Description: LM336-5.0 Web Page; ComponentLink2URL: http://www.national.com/pf/LM/LM336-5.0.html; ComponentLink3Description: Z03A Package Page; ComponentLink3URL: http://www.national.com/packaging/folders/z03a.html
footprint Z03A (TO, Flat Index; 3 In-Line, Axial Leads; Body Dia. 5mm; Leads 0.55 x 0.50 mm (max))
pins: 1 ADJ (in), 2 +V, 3 -V

## LM336M-2.5
designator U?
Voltage Reference Diode; PartNumber: LM336M-2.5; Manufacturer: National Semiconductor; CompType: Voltage Reference IC; PackageTopMarking: NSZXTT*LM336*M2.5; Published: 4-Dec-2008; DatasheetVersion: Jun-2005; PackageVersion: revL, Sep-2006; PackageReference: M08A; Publisher: Altium Limited; PackageDescription: SOIC Narrow, 4.9 x 3.9 x 1.45mm, 8 Lead, 1.27mm Pitch; RoHS: Y; PinCount: 8; DigiKeyPartNumber: LM336M-2.5-ND; Code_JEDEC: MS-012-AA; Code_IPC: SOIC127P600-8; ComponentLink1Description: LM336-2.5 Datasheet; ComponentLink1URL: http://www.national.com/ds/LM/LM336-2.5.pdf; ComponentLink2Description: LM336-2.5 Web Page; ComponentLink2URL: http://www.national.com/pf/LM/LM336-2.5.html; ComponentLink3Description: M08A Package Page; ComponentLink3URL: http://www.national.com/packaging/folders/m08a.html
footprint M08A_N (SOIC, 8-Leads, Body 4.9x3.9mm, Pitch 1.27mm, IPC Medium Density)
footprint M08A_L (SOIC, 8-Leads, Body 4.9x3.9mm, Pitch 1.27mm, IPC High Density)
footprint M08A_M (SOIC, 8-Leads, Body 4.9x3.9mm, Pitch 1.27mm, IPC Low Density)
pins: 1 NC, 2 NC, 3 NC, 4 -V, 5 ADJ, 6 NC, 7 NC, 8 +V

## LM336M-5.0
designator U?
5.0V Reference Diode; PartNumber: LM336M-5.0; Manufacturer: National Semiconductor; CompType: Voltage Reference IC; PackageTopMarking: NSZXTT*LM336*M5.0; Published: 4-Dec-2008; DatasheetVersion: Jun-2005; PackageVersion: revL, Sep-2006; PackageReference: M08A; Publisher: Altium Limited; PackageDescription: SOIC Narrow, 4.9 x 3.9 x 1.45mm, 8 Lead, 1.27mm Pitch; RoHS: O; PinCount: 8; DigiKeyPartNumber: LM336M-5.0-ND; Code_JEDEC: MS-012-AA; Code_IPC: SOIC127P600-8; ComponentLink1Description: LM336-5.0 Datasheet; ComponentLink1URL: http://www.national.com/ds/LM/LM336-5.0.pdf; ComponentLink2Description: LM336-5.0 Web Page; ComponentLink2URL: http://www.national.com/pf/LM/LM336-5.0.html; ComponentLink3Description: M08A Package Page; ComponentLink3URL: http://www.national.com/packaging/folders/m08a.html
footprint M08A_N (SOIC, 8-Leads, Body 4.9x3.9mm, Pitch 1.27mm, IPC Medium Density)
footprint M08A_L (SOIC, 8-Leads, Body 4.9x3.9mm, Pitch 1.27mm, IPC High Density)
footprint M08A_M (SOIC, 8-Leads, Body 4.9x3.9mm, Pitch 1.27mm, IPC Low Density)
pins: 1 NC, 2 NC, 3 NC, 4 -V, 5 ADJ, 6 NC, 7 NC, 8 +V